# Altium schematic symbol library MTSW-102-07-G-S-240.SchLib: 1 symbol
Pins are listed as number, name and electrical type; pins without a type are passive.

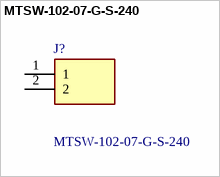
[diagram p0: symbol MTSW-102-07-G-S-240]

## MTSW-102-07-G-S-240
designator J?
Headers & Wire Housings .100" Variable Post Height Terminal Strip; Manufacturer_Name: SAMTEC; Geometry.Height: 8.64mm; Manufacturer_Part_Number: MTSW-102-07-G-S-240; Mouser Part Number: 200-MTSW10207GS240; Mouser Price/Stock: https://www.mouser.co.uk/ProductDetail/Samtec/MTSW-102-07-G-S-240?qs=rU5fayqh%252BE07rqkuKhF%252Bfg%3D%3D; Arrow Part Number: MTSW-102-07-G-S-240; Arrow Price/Stock: https://www.arrow.com/en/products/mtsw-102-07-g-s-240/samtec; Datasheet Link: http://suddendocs.samtec.com/catalog_english/mtsw.pdf
footprint HDRV2W64P0X254_1X2_508X254X864P
pins: 1, 2